# EAGLE library part SN65HVD230 (library Cynara-IntegratedCircuits)
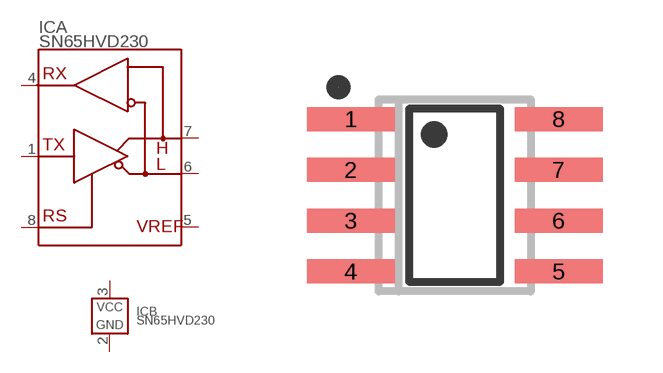
[diagram p6: symbol with the pads of SOIC127P600X120-8N; footprint SOIC127P600X120-8N]

Designator prefix IC; gates A=SN65HVD230 B=POWER_VCC-GND

## SN65HVD230-SO8 (MANUFACTURER: Texas Instruments; MANUFACTURERPARTNO: SN65HVD230D; VALUE: SN65HVD230)  [SOIC127P600X120-8N]
1  A:TX  in
2  B:GND  pwr
3  B:VCC  pwr
4  A:RX  out
5  A:VREF  pas
6  A:L
7  A:H
8  A:RS  in

## Footprint SOIC127P600X120-8N (pad centres in mm)
smd 2.2 x 0.6: 1 -2.6,1.905; 2 -2.6,0.635; 3 -2.6,-0.635; 4 -2.6,-1.905; 5 2.6,-1.905; 6 2.6,-0.635; 7 2.6,0.635; 8 2.6,1.905